# Altium schematic symbol library Integrated Chips.SchLib: 79 symbols
Pins are listed as number, name and electrical type; pins without a type are passive.

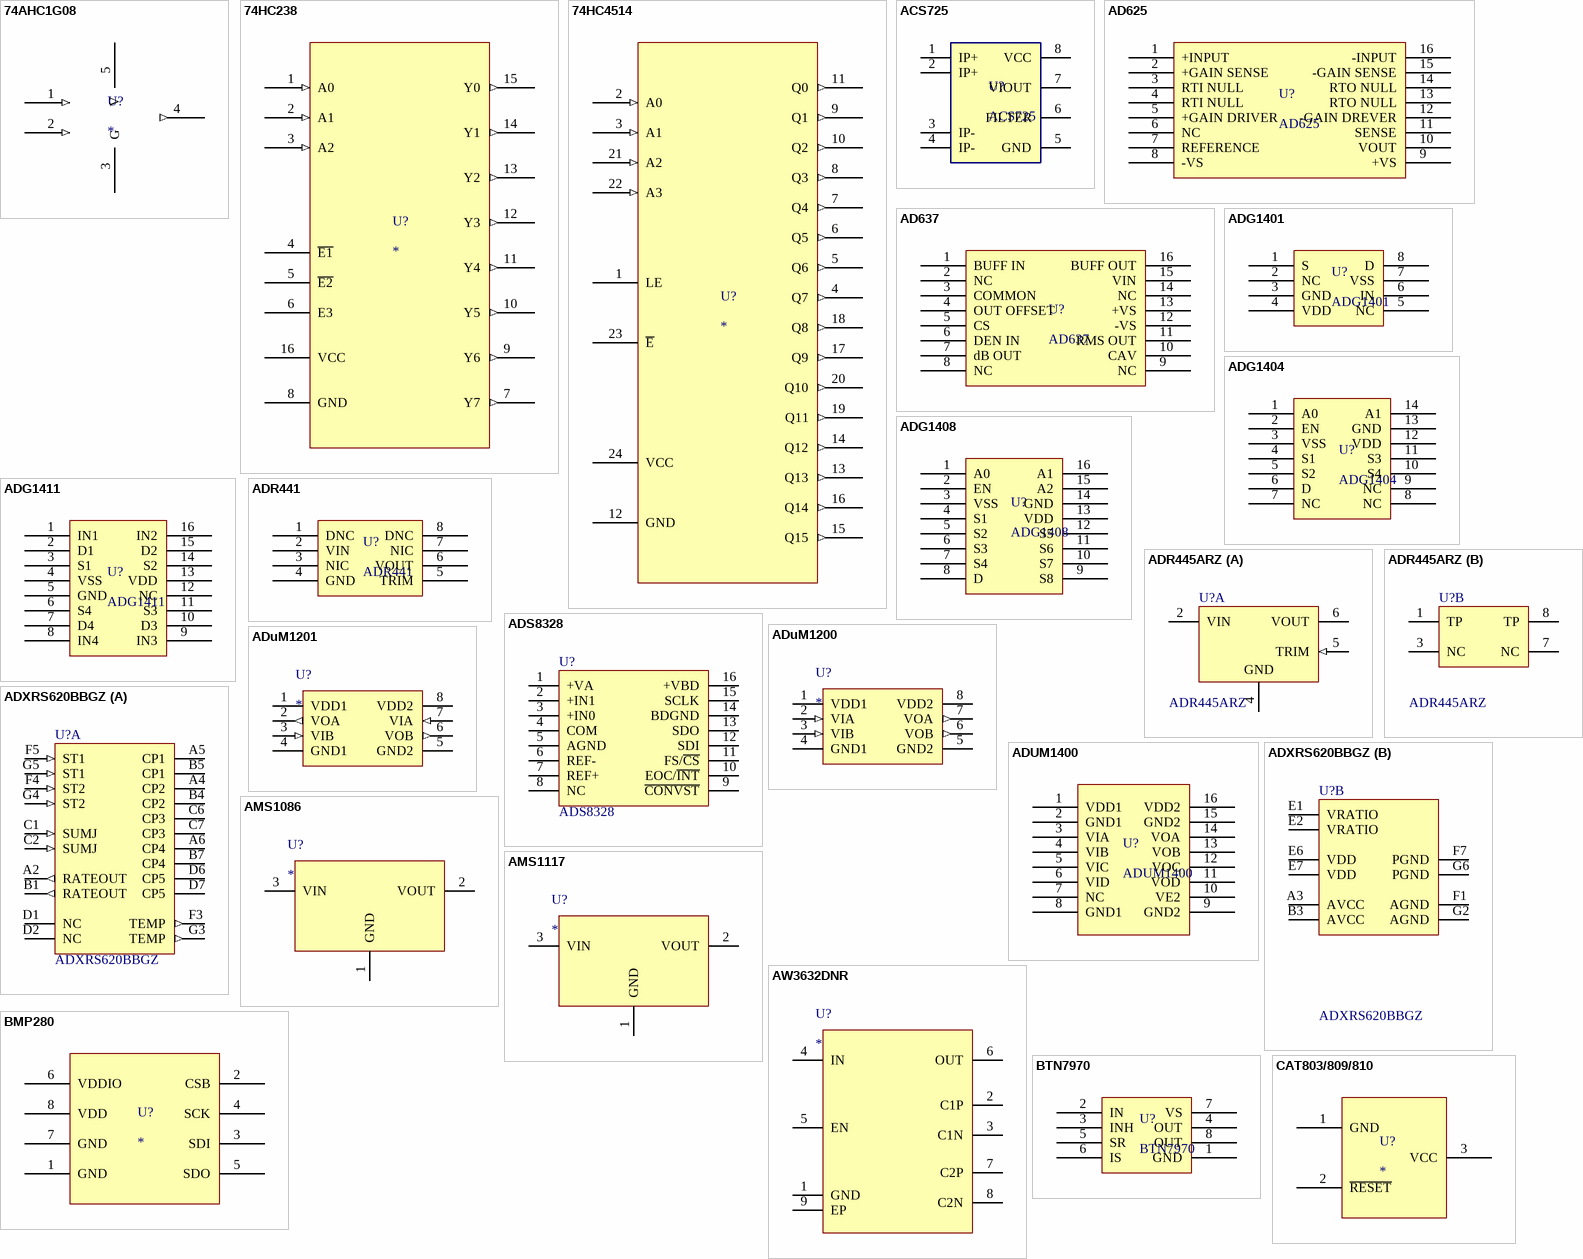
[diagram p0: symbols 74AHC1G08 to CAT803/809/810]

## 74AHC1G08
designator U?
2-input AND gate
footprint SC70_5(SOT353) (SOT353, 5-Leads, Body 2.00x2.10mm, Pitch 0.65mm, IPC Medium Density)
pins: 1 (in), 2 (in), 3 G (power), 4 (out), 5 V (power)

## 74HC238
designator U?
3-to-8 line decoder/demultiplexer
footprint SOIC16_150 (SOP, 16-Leads, Body 9.90x3.90mm, Pitch 1.27mm, IPC Medium Density)
pins: 1 A0 (in), 2 A1 (in), 3 A2 (in), 4 ~{E1}, 5 ~{E2}, 6 E3, 7 Y7 (out), 8 GND (power), 9 Y6 (out), 10 Y5 (out), 11 Y4 (out), 12 Y3 (out), 13 Y2 (out), 14 Y1 (out), 15 Y0 (out), 16 VCC (power)

## 74HC4514
designator U?
4-to-16 line decoder/demultiplexer with input latches
footprint SOIC24_300 (SOIC, 24-Leads, Body 15.40x7.50mm, Pitch 1.27mm, IPC Medium Density)
pins: 1 LE, 2 A0 (in), 3 A1 (in), 4 Q7 (out), 5 Q6 (out), 6 Q5 (out), 7 Q4 (out), 8 Q3 (out), 9 Q1 (out), 10 Q2 (out), 11 Q0 (out), 12 GND (power), 13 Q13 (out), 14 Q12 (out), 15 Q15 (out), 16 Q14 (out), 17 Q9 (out), 18 Q8 (out), 19 Q11 (out), 20 Q10 (out), 21 A2 (in), 22 A3 (in), 23 ~{E}, 24 VCC (power)

## ACS725
designator U?
Automotive-Grade, Galvanically Isolated Current Sensor IC  ACS725 With Common-Mode Field Rejection in a Small Footprint SOIC8 Package
footprint SOIC8_150
pins: 1 IP+, 2 IP+, 3 IP-, 4 IP-, 5 GND, 6 FILTER, 7 VIOUT, 8 VCC

## AD625
designator U?
Programmable Gain Instrumentation Amplifier
footprint DIP16
pins: 1 +INPUT, 2 +GAIN SENSE, 3 RTI NULL, 4 RTI NULL, 5 +GAIN DRIVER, 6 NC, 7 REFERENCE, 8 -VS, 9 +VS, 10 VOUT, 11 SENSE, 12 -GAIN DREVER, 13 RTO NULL, 14 RTO NULL, 15 -GAIN SENSE, 16 -INPUT

## AD637
designator U?
High Precision, Wideband RMS-to-DC Converter
footprint SOIC16_300
pins: 1 BUFF IN, 2 NC, 3 COMMON, 4 OUT OFFSET, 5 CS, 6 DEN IN, 7 dB OUT, 8 NC, 9 NC, 10 CAV, 11 RMS OUT, 12 -VS, 13 +VS, 14 NC, 15 VIN, 16 BUFF OUT

## ADG1401
designator U?
1 Ω On Resistance, ±15 V/+12 V/±5 V iCMOS SPST Switches
footprint MSOP8 (TSOP, 8-Leads, Body 3.00x3.00mm, Pitch 0.65mm, IPC Medium Density)
pins: 1 S, 2 NC, 3 GND, 4 VDD, 5 NC, 6 IN, 7 VSS, 8 D

## ADG1404
designator U?
1.5 Ω On Resistance, ±15 V/12 V/±5 V, 4:1, i CMOS Mulitiplexers
footprint TSSOP14
pins: 1 A0, 2 EN, 3 VSS, 4 S1, 5 S2, 6 D, 7 NC, 8 NC, 9 NC, 10 S4, 11 S3, 12 VDD, 13 GND, 14 A1

## ADG1408
designator U?
4Ω R on , 4-/8-Channel ±15 V/+12 V/±5 V i CMOS Mulitiplexers
footprint TSSOP16 (TSOP, 16-Leads, Body 5.00x4.40mm, Pitch 0.65mm, IPC Medium Density)
pins: 1 A0, 2 EN, 3 VSS, 4 S1, 5 S2, 6 S3, 7 S4, 8 D, 9 S8, 10 S7, 11 S6, 12 S5, 13 VDD, 14 GND, 15 A2, 16 A1

## ADG1411
designator U?
1.5_Ω_On_Resistance,_±15_V/+12_V/±5_V,_iCMOS,_Quad_SPST_Switches
footprint TSSOP16 (TSOP, 16-Leads, Body 5.00x4.40mm, Pitch 0.65mm, IPC Medium Density)
pins: 1 IN1, 2 D1, 3 S1, 4 VSS, 5 GND, 6 S4, 7 D4, 8 IN4, 9 IN3, 10 D3, 11 S3, 12 NC, 13 VDD, 14 S2, 15 D2, 16 IN2

## ADR441
designator U?
Ultralow_Noise,_LDO_XFET_Voltage_References_with_Current_Sink_and_Source
footprint SOIC8_150
pins: 1 DNC, 2 VIN, 3 NIC, 4 GND, 5 TRIM, 6 VOUT, 7 NIC, 8 DNC

## ADR445ARZ
designator U?
Ultralow Noise, LDO XFET Voltage Reference with Current Sink and Source, 5 V Output, 5.5 to 18 V Supply, Industrial, 8-pin SOIC (R-8), Tube; Manufacturer: Analog Devices; Max V Supply (V): 18; Min V Supply (V): 5.5; Ref Out TC (ppm/C): 2; Vout: 5V; DatasheetVersion: Rev. E; PackageVersion: 060506-A, 06/2006; PackageReference: R-8; PackageDescription: 8-Pin Standard Small Outline Package, Body 4.9 x 3.9 mm, Pitch 1.27 mm; Supplier 1: Digi-Key; Supplier Part Number 1: ADR445ARZ-ND; Supplier 2: Farnell; Supplier Part Number 2: 1274149; Supplier 3: Mouser; Supplier Part Number 3: 584-ADR445ARZ; Packing: Tube; Operating Temp Range: -40 to 125 degC; Mounting Technology: Surface Mount; Code_JEDEC: MS-012-AA; PartNumber: ADR445ARZ; ComponentLink1Description: Manufacturer URL; ComponentLink1URL: http://www.analog.com/en/index.html; ComponentLink2Description: Datasheet; ComponentLink2URL: http://www.analog.com/static/imported-files/data_sheets/ADR440_441_443_444_445.pdf; ComponentLink3Description: Package Specification; ComponentLink3URL: http://www.analog.com/static/imported-files/packages/PKG_PDF/SOIC_Narrow%20(R)/R_8.pdf; ComponentLink4Description: URL Link1; ComponentLink4URL: Product URL:http://www.analog.com/en/special-linear-functions/voltage-references/adr445/products/product.html
footprint SOIC8_150
part A pins: 2 VIN (power), 4 GND (power), 5 TRIM (in), 6 VOUT (power)
part B pins: 1 TP, 3 NC, 7 NC, 8 TP

## ADS8328
designator U?
16 Bit AD Converter, dual unipolar input
footprint TSSOP16 (TSOP, 16-Leads, Body 5.00x4.40mm, Pitch 0.65mm, IPC Medium Density)
pins: 1 +VA (power), 2 +IN1 (power), 3 +IN0 (power), 4 COM (power), 5 AGND (power), 6 REF- (power), 7 REF+ (power), 8 NC (power), 9 ~{CONVST} (power), 10 EOC/~{INT} (power), 11 FS/~{CS} (power), 12 SDI (power), 13 SDO (power), 14 BDGND (power), 15 SCLK (power), 16 +VBD (power)

## ADuM1200
designator U?
footprint SOIC8_150
pins: 1 VDD1 (power), 2 VIA (in), 3 VIB (in), 4 GND1 (power), 5 GND2 (power), 6 VOB (out), 7 VOA (out), 8 VDD2 (power)

## ADuM1201
designator U?
footprint SOIC8_150
pins: 1 VDD1 (power), 2 VOA (out), 3 VIB (in), 4 GND1 (power), 5 GND2 (power), 6 VOB (out), 7 VIA (in), 8 VDD2 (power)

## ADUM1400
designator U?
Quad-Channel Digital Isolators
footprint SOIC16_300
pins: 1 VDD1, 2 GND1, 3 VIA, 4 VIB, 5 VIC, 6 VID, 7 NC, 8 GND1, 9 GND2, 10 VE2, 11 VOD, 12 VOC, 13 VOB, 14 VOA, 15 GND2, 16 VDD2

## ADXRS620BBGZ
designator U?
Yaw Rate Gyroscope; Manufacturer: Analog Devices; -3dB Bandwidth: 2.5 KHz; Nonliniarity: 0.1% of FS; Output Type: Analog; Packing: Tray; Sensitivity: 6 mv/degrees/s; Supply Current: 3.5 mA; Temp Sensor: Yes; Voltage Reference: No; Voltage Supply (V): 4.75 to 5.25; DatasheetVersion: Rev. B; PackageVersion: 042307-A, 04/2007; PackageReference: BG-32-3; PackageDescription: 32-Ball Ceramic Ball Grid Array, 6.85 x 6.85 mm Body, 0.8 mm Pitch; Supplier 1: Digi-Key; Supplier Part Number 1: ADXRS620BBGZ-ND; Supplier 2: Farnell; Supplier Part Number 2: 2305763; Supplier 3: Newark; Supplier Part Number 3: 91R2569; Supplier 4: Mouser; Supplier Part Number 4: 584-ADXRS620BBGZ; Mounting Technology: Surface Mount; PartNumber: ADXRS620BBGZ; ComponentLink1Description: Manufacturer URL; ComponentLink1URL: http://www.analog.com/en/index.html; ComponentLink2Description: Datasheet; ComponentLink2URL: http://www.analog.com/static/imported-files/data_sheets/ADXRS620.pdf; ComponentLink3Description: Package Specification; ComponentLink3URL: http:/www.analog.com/static/imported-files/packages/6438543BG_32_3.pdf; ComponentLink4Description: Product URL; ComponentLink4URL: http://www.analog.com/en/mems-sensors/mems-inertial-sensors/adxrs620/products/product.html
footprint BGA32_80P_0707
part A pins: A2 RATEOUT (out) "Rate Signal Output.", A4 CP2 "Charge Pump Capacitor (22 nF).", A5 CP1 "Charge Pump Capacitor (22 nF).", A6 CP4 "Charge Pump Capacitor (22 nF).", B1 RATEOUT (out) "Rate Signal Output.", B4 CP2 "Charge Pump Capacitor (22 nF).", B5 CP1 "Charge Pump Capacitor (22 nF).", B7 CP4 "Charge Pump Capacitor (22 nF).", C1 SUMJ (in) "Output Amp Summing Junction.", C2 SUMJ (in) "Output Amp Summing Junction.", C6 CP3 "Charge Pump Capacitor (22 nF).", C7 CP3 "Charge Pump Capacitor (22 nF).", D1 NC "No Connect.", D2 NC "No Connect.", D6 CP5 (power) "HV Filter Capacitor (0.1 uF).", D7 CP5 (power) "HV Filter Capacitor (0.1 uF).", F3 TEMP (out) "Temperature Voltage Output.", F4 ST2 (in) "Self-Test for Sensor 2.", F5 ST1 (in) "Self-Test for Sensor 1.", G3 TEMP (out) "Temperature Voltage Output.", G4 ST2 (in) "Self-Test for Sensor 2.", G5 ST1 (in) "Self-Test for Sensor 1."
part B pins: A3 AVCC (power) "Positive Analog Supply.", B3 AVCC (power) "Positive Analog Supply.", E1 VRATIO (power) "Reference Supply for Ratiometric Output.", E2 VRATIO (power) "Reference Supply for Ratiometric Output.", E6 VDD (power) "Positive Charge Pump Supply.", E7 VDD (power) "Positive Charge Pump Supply.", F1 AGND (power) "Analog Supply Return.", F7 PGND (power) "Charge Pump Supply Return.", G2 AGND (power) "Analog Supply Return.", G6 PGND (power) "Charge Pump Supply Return."

## AMS1086
designator U?
footprint TO-263AA(D2PAK)
pins: 1 GND (power), 2 VOUT (power), 3 VIN (power)

## AMS1117
designator U?
footprint SOT223 (SOT223, 4-Leads, Body 6.50x7.00mm (avg), Pitch 2.30mm, IPC Medium Density)
pins: 1 GND (power), 2 VOUT (power), 3 VIN (power)

## AW3632DNR
designator U?
footprint DFN8_2X2 (QFN, 8-Leads, Body 2.00x2.00mm, Pitch 0.50mm, Thermal Pad 0.60x1.20mm, IPC Medium Density)
pins: 1 GND, 2 C1P, 3 C1N, 4 IN, 5 EN, 6 OUT, 7 C2P, 8 C2N, 9 EP

## BMP280
designator U?
Digital pressure sensor
footprint BMP280
pins: 1 GND, 2 CSB, 3 SDI, 4 SCK, 5 SDO, 6 VDDIO, 7 GND, 8 VDD

## BTN7970
designator U?
High Current PN Half Bridge / NovalithIC™
footprint TO-263-7
pins: 1 GND (power), 2 IN (power), 3 INH (power), 4 OUT (power), 5 SR (power), 6 IS (power), 7 VS (power), 8 OUT (power)

## CAT803/809/810
designator U?
3-Pin Microprocessor power supply supervisors
footprint SOT23_3_1 (SOT23, 3-Leads, Body 2.92x2.37mm, Pitch 0.95mm, IPC Medium Density)
pins: 1 GND (power), 2 ~{RESET}, 3 VCC (power)

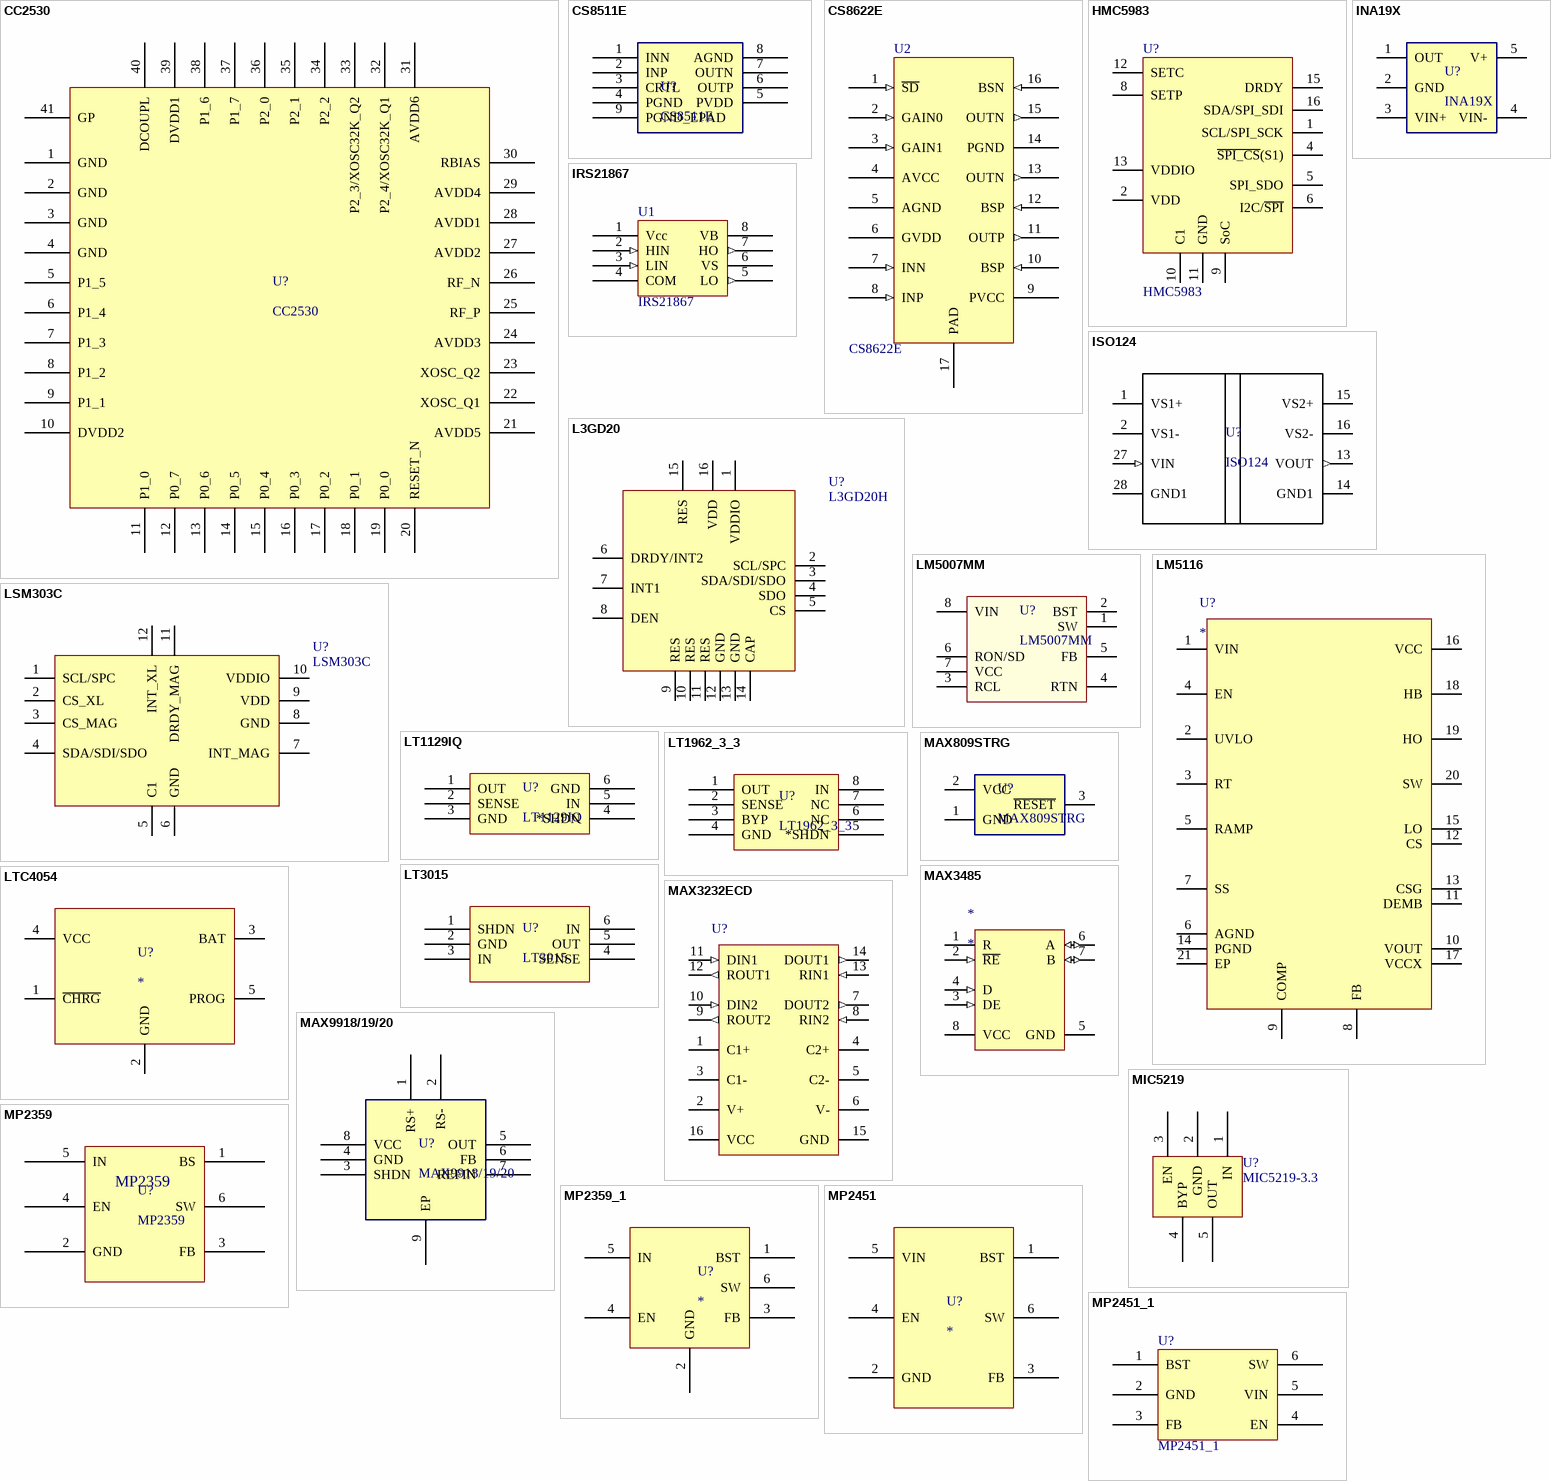
[diagram p1: symbols CC2530 to MP2451_1]

## CC2530
designator U?
2.4G Zigbee application Soc
footprint QFN40_50P_EP (PQFN, 40-Leads, Body 6.00x6.00mm, Pitch 0.50mm, Thermal Pad 4.50x4.50mm, IPC Medium Density)
pins: 1 GND, 2 GND, 3 GND, 4 GND, 5 P1_5, 6 P1_4, 7 P1_3, 8 P1_2, 9 P1_1, 10 DVDD2, 11 P1_0, 12 P0_7, 13 P0_6, 14 P0_5, 15 P0_4, 16 P0_3, 17 P0_2, 18 P0_1, 19 P0_0, 20 RESET_N, 21 AVDD5, 22 XOSC_Q1, 23 XOSC_Q2, 24 AVDD3, 25 RF_P, 26 RF_N, 27 AVDD2, 28 AVDD1, 29 AVDD4, 30 RBIAS, 31 AVDD6, 32 P2_4/XOSC32K_Q1, 33 P2_3/XOSC32K_Q2, 34 P2_2, 35 P2_1, 36 P2_0, 37 P1_7, 38 P1_6, 39 DVDD1, 40 DCOUPL, 41 GP

## CS8511E
designator U?
footprint SOIC8_150_EP (SOIC, 8-Leads, Body 4.90x3.90mm, Pitch 1.27mm, Thermal Pad 3.17x2.43mm, IPC Medium Density)
pins: 1 INN, 2 INP, 3 CRTL, 4 PGND, 5 PVDD, 6 OUTP, 7 OUTN, 8 AGND, 9 PGND_EPAD

## CS8622E
designator U2
footprint SOIC16_150_EP (SOP, 16-Leads, Body 9.90x3.90mm, Pitch 1.27mm, Thermal Pad 4.50x3.00mm, IPC Medium Density)
pins: 1 ~{SD} (in), 2 GAIN0 (in), 3 GAIN1 (in), 4 AVCC (power), 5 AGND (power), 6 GVDD (power), 7 INN (in), 8 INP (in), 9 PVCC (power), 10 BSP (in), 11 OUTP (out), 12 BSP (in), 13 OUTN (out), 14 PGND (power), 15 OUTN (out), 16 BSN (in), 17 PAD (power)

## HMC5983
designator U?
3-Axis digital compass IC
footprint QFN16_50P
pins: 1 SCL/SPI_SCK, 2 VDD, 4 ~{SPI_CS}(S1), 5 SPI_SDO, 6 I2C/~{SPI}, 8 SETP, 9 SoC, 10 C1, 11 GND, 12 SETC, 13 VDDIO, 15 DRDY, 16 SDA/SPI_SDI

## INA19X
designator U?
Pinout #1gain=20/50/100CURRENT SHUNT MONITOR  −16V to +80V Common-Mode Range
footprint SOT23_5 (SOT23, 5-Leads, Body 2.90x2.70mm, Pitch 0.95mm, IPC Medium Density)
pins: 1 OUT, 2 GND, 3 VIN+, 4 VIN-, 5 V+

## IRS21867
designator U1
footprint SOIC8_150
pins: 1 Vcc (power), 2 HIN (in), 3 LIN (in), 4 COM (power), 5 LO (out), 6 VS (power), 7 HO (out), 8 VB (power)

## ISO124
designator U?
ISO124 Precision Lowest-Cost Isolation Amplifier
footprint SOIC16_DVA (Footprint not found)
pins: 1 VS1+ (power), 2 VS1- (power), 13 VOUT (out), 14 GND1 (power), 15 VS2+ (power), 16 VS2- (power), 27 VIN (in), 28 GND1 (power)

## L3GD20
designator U?, comment L3GD20H
3-Axis digital gyroscope
footprint LGA16_3X3
pins: 1 VDDIO, 2 SCL/SPC, 3 SDA/SDI/SDO, 4 SDO, 5 CS, 6 DRDY/INT2, 7 INT1, 8 DEN, 9 RES, 10 RES, 11 RES, 12 GND, 13 GND, 14 CAP, 15 RES, 16 VDD

## LM5007MM
designator U?
LM5007 High Voltage 80-V Step Down Switching Regulator
footprint MSOP8 (TSOP, 8-Leads, Body 3.00x3.00mm, Pitch 0.65mm, IPC Medium Density)
pins: 1 SW (power), 2 BST, 3 RCL, 4 RTN (power), 5 FB, 6 RON/SD, 7 VCC (power), 8 VIN (power)

## LM5116
designator U?
footprint TSSOP20_EP (TSOP, 20-Leads, Body 6.50x4.40mm, Pitch 0.65mm, Thermal Pad 4.35x3.15mm, IPC Medium Density)
pins: 1 VIN, 2 UVLO, 3 RT, 4 EN, 5 RAMP, 6 AGND, 7 SS, 8 FB, 9 COMP, 10 VOUT, 11 DEMB, 12 CS, 13 CSG, 14 PGND, 15 LO, 16 VCC, 17 VCCX, 18 HB, 19 HO, 20 SW, 21 EP

## LSM303C
designator U?
3D accelerometer and 3D magnetometer
footprint LGA12_2X2
pins: 1 SCL/SPC, 2 CS_XL, 3 CS_MAG, 4 SDA/SDI/SDO, 5 C1, 6 GND, 7 INT_MAG, 8 GND, 9 VDD, 10 VDDIO, 11 DRDY_MAG, 12 INT_XL

## LT1129IQ
designator U?
LT3015: 1.5A, Low Noise, Negative Linear Regulator with Precision Current Limit
footprint TO-263-5
pins: 1 OUT, 2 SENSE, 3 GND, 4 *SHDN, 5 IN, 6 GND

## LT1962_3_3
designator U?
LT1962: 300mA, Low Noise, Micropower LDO Regulators
footprint MSOP8 (TSOP, 8-Leads, Body 3.00x3.00mm, Pitch 0.65mm, IPC Medium Density)
pins: 1 OUT, 2 SENSE, 3 BYP, 4 GND, 5 *SHDN, 6 NC, 7 NC, 8 IN

## LT3015
designator U?
LT3015: 1.5A, Low Noise, Negative Linear Regulator with Precision Current Limit
footprint TO-263-5
pins: 1 SHDN, 2 GND, 3 IN, 4 SENSE, 5 OUT, 6 IN

## LTC4054
designator U?
footprint SOT23_5L (SOT23, 5-Leads, Body 2.92x2.79mm, Pitch 0.95mm, IPC High Density)
pins: 1 ~{CHRG}, 2 GND (power), 3 BAT (power), 4 VCC (power), 5 PROG (power)

## MAX809STRG
designator U?
Very Low Supply Current  3-Pin Microprocessor  Reset Monitors
footprint SOT23_3_1 (SOT23, 3-Leads, Body 2.92x2.37mm, Pitch 0.95mm, IPC Medium Density)
pins: 1 GND, 2 VCC, 3 ~{RESET}

## MAX3232ECD
designator U?
3-V to 5.5-V Multichannel RS-232 Line Driver / Receiver with ?5-kV IEC ESD Protection, 0 to 70 degC, 16-Pin SOIC (D), Green (RoHS & no Sb/Br); Drivers Per Package: 2; Supply Voltage(s)(V): 3.3 or 5.0; ESD HBM(kV): +/-15; ICC(Max)(mA): 1; Single Supply: TRUE; DatasheetVersion: SLLS664A; PackageVersion: revM, Jun-2011; PackageReference: D16; PackageDescription: 16-Pin Plastic Small Outline Integrated Circuit, 9.9 x 3.9 mm, Pitch 1.27 mm Pitch; SubFamily: RS-232; Receivers Per Package: 2; RS-232: TRUE; IEC-61000-4-2 SUPPORT: TRUE; ComponentLink1Description: Manufacturer URL; ComponentLink1URL: www.ti.com; ComponentLink2Description: Datasheet; ComponentLink2URL: http://www.ti.com/general/docs/lit/getliterature.tsp?genericPartNumber=MAX3232E&fileType=pdf; ComponentLink3Description: Package Specification; ComponentLink3URL: http://www.ti.com/litv/pdf/mpds178g
footprint SOIC16_150 (SOP, 16-Leads, Body 9.90x3.90mm, Pitch 1.27mm, IPC Medium Density)
pins: 1 C1+, 2 V+ (power), 3 C1-, 4 C2+, 5 C2-, 6 V- (power), 7 DOUT2 (out), 8 RIN2 (in), 9 ROUT2 (out), 10 DIN2 (in), 11 DIN1 (in), 12 ROUT1 (out), 13 RIN1 (in), 14 DOUT1 (out), 15 GND (power), 16 VCC (power)

## MAX3485
designator *
footprint SOIC8_150
pins: 1 R (hiz), 2 ~{RE} (in), 3 DE (in), 4 D (in), 5 GND (power), 6 A (io), 7 B (io), 8 VCC (power)

## MAX9918/19/20
designator U?
footprint SOIC8_150_EP (SOIC, 8-Leads, Body 4.90x3.90mm, Pitch 1.27mm, Thermal Pad 3.17x2.43mm, IPC Medium Density)
pins: 1 RS+, 2 RS-, 3 SHDN, 4 GND, 5 OUT, 6 FB, 7 REFIN, 8 VCC, 9 EP

## MIC5219
designator U?, comment MIC5219-3.3
footprint SOT23_5 (SOT23, 5-Leads, Body 2.90x2.70mm, Pitch 0.95mm, IPC Medium Density)
pins: 1 IN, 2 GND, 3 EN, 4 BYP, 5 OUT

## MP2359
designator U?
MP2359 – 1.2A, 24V, 1.4MHz STEP-DOWN CONVERTER IN A TSOT23-6
footprint SOT23_6 (SOT23, 6-Leads, Body 2.90x2.80mm, Pitch 0.95mm, IPC Medium Density)
pins: 1 BS, 2 GND, 3 FB, 4 EN, 5 IN, 6 SW

## MP2359_1
designator U?
footprint SOT23_6 (SOT23, 6-Leads, Body 2.90x2.80mm, Pitch 0.95mm, IPC Medium Density)
pins: 1 BST, 2 GND (power), 3 FB, 4 EN, 5 IN (power), 6 SW

## MP2451
designator U?
footprint SOT23_6 (SOT23, 6-Leads, Body 2.90x2.80mm, Pitch 0.95mm, IPC Medium Density)
pins: 1 BST, 2 GND, 3 FB, 4 EN, 5 VIN, 6 SW

## MP2451_1
designator U?
footprint SOT23_6 (SOT23, 6-Leads, Body 2.90x2.80mm, Pitch 0.95mm, IPC Medium Density)
pins: 1 BST, 2 GND, 3 FB, 4 EN, 5 VIN, 6 SW

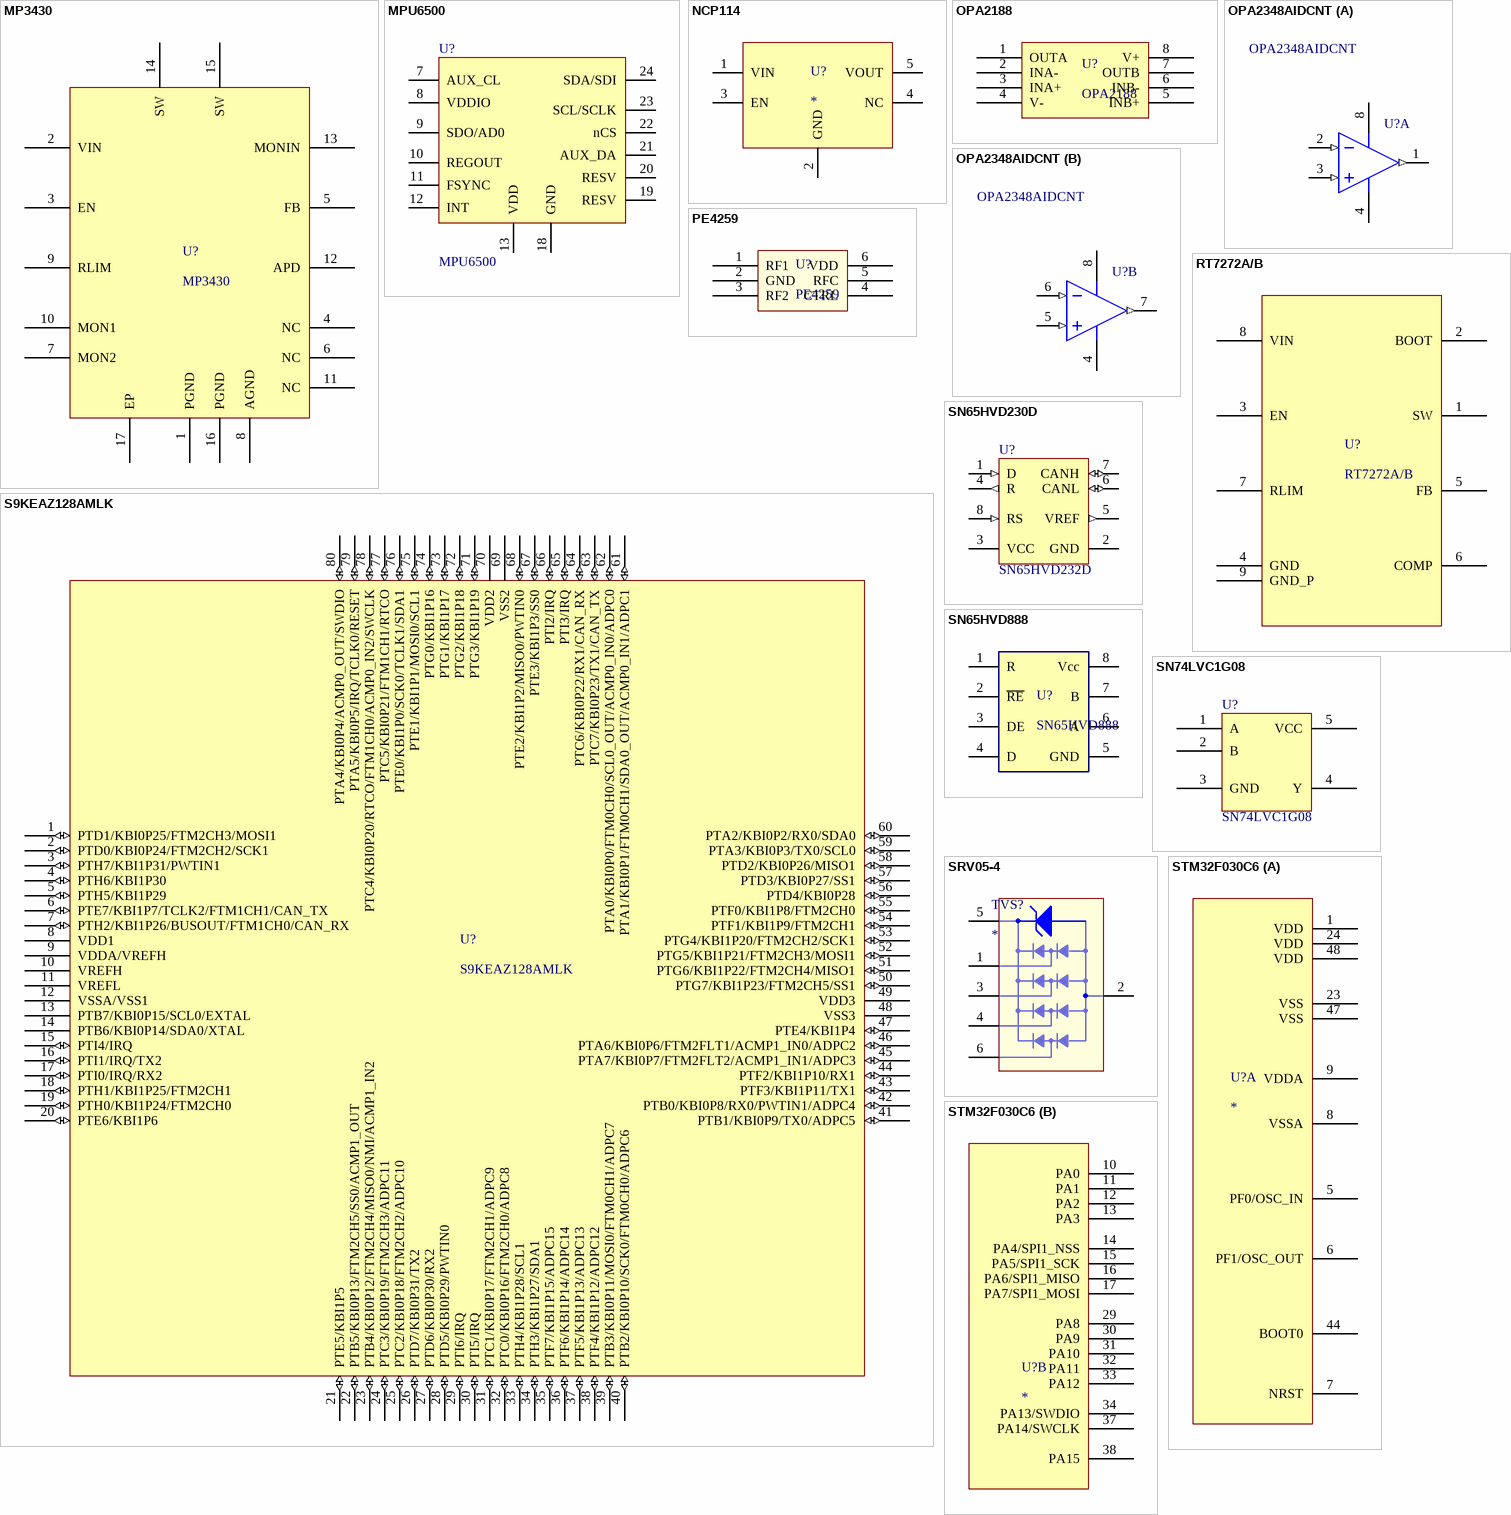
[diagram p2: symbols MP3430 to STM32F030C6]

## MP3430
designator U?
pins: 1 PGND, 2 VIN, 3 EN, 4 NC, 5 FB, 6 NC, 7 MON2, 8 AGND, 9 RLIM, 10 MON1, 11 NC, 12 APD, 13 MONIN, 14 SW, 15 SW, 16 PGND, 17 EP

## MPU6500
designator U?
footprint QFN24_40P_EP
pins: 7 AUX_CL, 8 VDDIO, 9 SDO/AD0, 10 REGOUT, 11 FSYNC, 12 INT, 13 VDD, 18 GND, 19 RESV, 20 RESV, 21 AUX_DA, 22 nCS, 23 SCL/SCLK, 24 SDA/SDI

## NCP114
designator U?
footprint SOT23_5 (SOT23, 5-Leads, Body 2.90x2.70mm, Pitch 0.95mm, IPC Medium Density)
pins: 1 VIN (power), 2 GND (power), 3 EN, 4 NC, 5 VOUT (power)

## OPA2188
designator U?
OPA2188 0.03-μV/°C Drift, Low-Noise, Rail-to-Rail Output, 36-V, Zero-Drift
footprint SOP_8 (Footprint not found)
footprint SOIC8_150
pins: 1 OUTA, 2 INA-, 3 INA+, 4 V-, 5 INB+, 6 INB-, 7 OUTB, 8 V+

## OPA2348AIDCNT
designator U?
1 MHz, 45 uA, RRIO, Dual Operational Amplifier, 2.1 to 5.5 V, -40 to 125 degC, 8-pin SOP (DCN8), Green (RoHS & no Sb/Br); Manufacturer: Texas Instruments; CMRR(Min)(dB): 70; GBW(Typ)(MHz): 1; IIB(Max)(pA): 10; Iq per channel(Max)(mA): 0.065; Number of Channels: 2; Offset Drift(Typ)(uV/C): 4; Packing: SMALL T&R; Rating: Catalog; Slew Rate(Typ)(V/us): 0.5; Sub Family: Low Input Bias Current Amp (<=10pA), Low Power Amp (<=500uA), Low Supply Voltage Amplifier (<=2.7V), Precision Amplifier; Total Supply Voltage(Max)(+5V is 5, +/-5V is 10): 5.5; Total Supply Voltage(Min)(+5V is 5, +/-5V is 10): 2.1; Vio (25C)(Max)(mV): 5; DatasheetVersion: SBOS213G; PackageVersion: 4202106/D, 11/2009; PackageReference: DCN8; PackageDescription: 8-Pin Plastic Small Outline, Body 1.6 x 2.9 mm, Pitch 0.65 mm; Supplier 1: Digi-Key; Supplier Part Number 1: 296-13008-2-ND; Supplier 2: Digi-Key; Supplier Part Number 2: 296-13008-1-ND; Supplier 3: Digi-Key; Supplier Part Number 3: 296-13008-6-ND; Supplier 4: Newark; Supplier Part Number 4: 75C4724; Supplier 5: Mouser; Supplier Part Number 5: 595-OPA2348AIDCNT; Eco-Plan: Green (RoHS & no Sb/Br); Mounting Technology: Surface Mount; Code_JEDEC: MO-178; PartNumber: OPA2348AIDCNT; ComponentLink1Description: Manufacturer URL; ComponentLink1URL: http://www.ti.com/; ComponentLink2Description: Datasheet; ComponentLink2URL: http://www.ti.com/lit/ds/symlink/opa2348.pdf; ComponentLink3Description: Package Specification; ComponentLink3URL: http://www.ti.com/lit/ml/mpds099c/mpds099c.pdf
footprint SOT23_8 (TSOP, 8-Leads, Body 2.90x1.60mm, Pitch 0.65mm, IPC Medium Density)
pins on every part: 4 V- (power), 8 V+ (power)
part A pins: 1 OUT A (out), 2 IN A- (in), 3 IN A+ (in)
part B pins: 5 IN B+ (in), 6 IN B- (in), 7 OUT B (out)

## PE4259
designator U?
PE4259 Peregrine RF Switch
footprint SC70_6(SOT363)
pins: 1 RF1, 2 GND, 3 RF2, 4 CTRL, 5 RFC, 6 VDD

## RT7272A/B
designator U?
footprint SOIC8_150_EP (SOIC, 8-Leads, Body 4.90x3.90mm, Pitch 1.27mm, Thermal Pad 3.17x2.43mm, IPC Medium Density)
pins: 1 SW, 2 BOOT, 3 EN, 4 GND, 5 FB, 6 COMP, 7 RLIM, 8 VIN, 9 GND_P

## S9KEAZ128AMLK
designator U?
32-bit MCU core from ARM’s Cortex-M class, 1.77 CoreMark®/MHz from / single-cycle access memories, 48 MHz CPU frequency
footprint LQFP80_65P (LQFP, 80-Leads, Body 14.00x14.00mm, Pitch 0.65mm, IPC Medium Density)
pins: 1 PTD1/KBI0P25/FTM2CH3/MOSI1 (io), 2 PTD0/KBI0P24/FTM2CH2/SCK1 (io), 3 PTH7/KBI1P31/PWTIN1 (io), 4 PTH6/KBI1P30 (io), 5 PTH5/KBI1P29 (io), 6 PTE7/KBI1P7/TCLK2/FTM1CH1/CAN_TX (io), 7 PTH2/KBI1P26/BUSOUT/FTM1CH0/CAN_RX (io), 8 VDD1 (power), 9 VDDA/VREFH (power), 10 VREFH (power), 11 VREFL (power), 12 VSSA/VSS1 (power), 13 PTB7/KBI0P15/SCL0/EXTAL, 14 PTB6/KBI0P14/SDA0/XTAL, 15 PTI4/IRQ (io), 16 PTI1/IRQ/TX2 (io), 17 PTI0/IRQ/RX2 (io), 18 PTH1/KBI1P25/FTM2CH1 (io), 19 PTH0/KBI1P24/FTM2CH0 (io), 20 PTE6/KBI1P6 (io), 21 PTE5/KBI1P5 (io), 22 PTB5/KBI0P13/FTM2CH5/SS0/ACMP1_OUT (io), 23 PTB4/KBI0P12/FTM2CH4/MISO0/NMI/ACMP1_IN2 (io), 24 PTC3/KBI0P19/FTM2CH3/ADPC11 (io), 25 PTC2/KBI0P18/FTM2CH2/ADPC10 (io), 26 PTD7/KBI0P31/TX2 (io), 27 PTD6/KBI0P30/RX2 (io), 28 PTD5/KBI0P29/PWTIN0 (io), 29 PTI6/IRQ (io), 30 PTI5/IRQ (io), 31 PTC1/KBI0P17/FTM2CH1/ADPC9 (io), 32 PTC0/KBI0P16/FTM2CH0/ADPC8 (io), 33 PTH4/KBI1P28/SCL1 (io), 34 PTH3/KBI1P27/SDA1 (io), 35 PTF7/KBI1P15/ADPC15 (io), 36 PTF6/KBI1P14/ADPC14 (io), 37 PTF5/KBI1P13/ADPC13 (io), 38 PTF4/KBI1P12/ADPC12 (io), 39 PTB3/KBI0P11/MOSI0/FTM0CH1/ADPC7 (io), 40 PTB2/KBI0P10/SCK0/FTM0CH0/ADPC6 (io), 41 PTB1/KBI0P9/TX0/ADPC5 (io), 42 PTB0/KBI0P8/RX0/PWTIN1/ADPC4 (io), 43 PTF3/KBI1P11/TX1 (io), 44 PTF2/KBI1P10/RX1 (io), 45 PTA7/KBI0P7/FTM2FLT2/ACMP1_IN1/ADPC3 (io), 46 PTA6/KBI0P6/FTM2FLT1/ACMP1_IN0/ADPC2 (io), 47 PTE4/KBI1P4 (io), 48 VSS3 (power), 49 VDD3 (power), 50 PTG7/KBI1P23/FTM2CH5/SS1 (io), 51 PTG6/KBI1P22/FTM2CH4/MISO1 (io), 52 PTG5/KBI1P21/FTM2CH3/MOSI1 (io), 53 PTG4/KBI1P20/FTM2CH2/SCK1 (io), 54 PTF1/KBI1P9/FTM2CH1 (io), 55 PTF0/KBI1P8/FTM2CH0 (io), 56 PTD4/KBI0P28 (io), 57 PTD3/KBI0P27/SS1 (io), 58 PTD2/KBI0P26/MISO1 (io), 59 PTA3/KBI0P3/TX0/SCL0 (io), 60 PTA2/KBI0P2/RX0/SDA0 (io), 61 PTA1/KBI0P1/FTM0CH1/SDA0_OUT/ACMP0_IN1/ADPC1 (io), 62 PTA0/KBI0P0/FTM0CH0/SCL0_OUT/ACMP0_IN0/ADPC0 (io), 63 PTC7/KBI0P23/TX1/CAN_TX (io), 64 PTC6/KBI0P22/RX1/CAN_RX (io), 65 PTI3/IRQ (io), 66 PTI2/IRQ (io), 67 PTE3/KBI1P3/SS0 (io), 68 PTE2/KBI1P2/MISO0/PWTIN0 (io), 69 VSS2 (power), 70 VDD2 (power), 71 PTG3/KBI1P19 (io), 72 PTG2/KBI1P18 (io), 73 PTG1/KBI1P17 (io), 74 PTG0/KBI1P16 (io), 75 PTE1/KBI1P1/MOSI0/SCL1 (io), 76 PTE0/KBI1P0/SCK0/TCLK1/SDA1 (io), 77 PTC5/KBI0P21/FTM1CH1/RTCO (io), 78 PTC4/KBI0P20/RTCO/FTM1CH0/ACMP0_IN2/SWCLK (io), 79 PTA5/KBI0P5/IRQ/TCLK0/RESET (io), 80 PTA4/KBI0P4/ACMP0_OUT/SWDIO (io)

## SN65HVD230D
designator U?, comment SN65HVD232D
3.3V CAN Transceiver with Standby Mode, 17 mA, -40 to 85 degC, 8-pin SOIC (D), Green (RoHS & no Sb/Br); Manufacturer: Texas Instruments; PartNumber: SN65HVD230D; Drivers Per Package: 1; Transient Pulse Protection(V): -25 to 25; ICC(Max)(mA): 17; Supply Voltage(s)(V): 3.3; Rating: Catalog; DatasheetVersion: SLOS346K; PackageVersion: revM, Jun-2011; PackageReference: D8; PackageDescription: 8-Pin Plastic Small Outline Integrated Circuit, 4.9 x 3.9 mm, Pitch 1.27 mm Pitch; Supplier 1: Digi-Key; Supplier Part Number 1: SN65HVD230D-ND; Supplier 2: Farnell; Supplier Part Number 2: 1103105; Supplier 3: Newark; Supplier Part Number 3: 75C7744; Supplier 4: Mouser; Supplier Part Number 4: 595-SN65HVD230D; Eco-Plan: Green (RoHS & no Sb/Br); SubFamily: CAN; Receivers Per Package: 1; Isolated: No; Low Power Mode: Standby; Footprint: PCA82C250; Mounting Technology: Surface Mount; Code_JEDEC: MS-012AA; ComponentLink1Description: Datasheet; ComponentLink1URL: http://www.ti.com/general/docs/lit/getliterature.tsp?genericPartNumber=SN65HVD230&fileType=pdf
footprint SOIC8_150
pins: 1 D (in) "Driver input", 2 GND (power) "Ground", 3 VCC (power) "Supply voltage", 4 R (out) "Receiver output", 5 VREF (out) "Reference output", 6 CANL (io) "Low bus output", 7 CANH (io) "High bus output", 8 RS (in) "Standby/slope control"

## SN65HVD888
designator U?
RS-485 转发器  具有 IEC-ESD 保护的总线极性纠正 300bps 至 250kbps
footprint SOIC8_150
pins: 1 R, 2 ~{RE}, 3 DE, 4 D, 5 GND, 6 A, 7 B, 8 Vcc

## SN74LVC1G08
designator U?
footprint SOT23_5 (SOT23, 5-Leads, Body 2.90x2.70mm, Pitch 0.95mm, IPC Medium Density)
pins: 1 A, 2 B, 3 GND, 4 Y, 5 VCC

## SRV05-4
designator TVS?
footprint SOT23_6 (SOT23, 6-Leads, Body 2.90x2.80mm, Pitch 0.95mm, IPC Medium Density)
pins: 1, 2, 3, 4, 5, 6

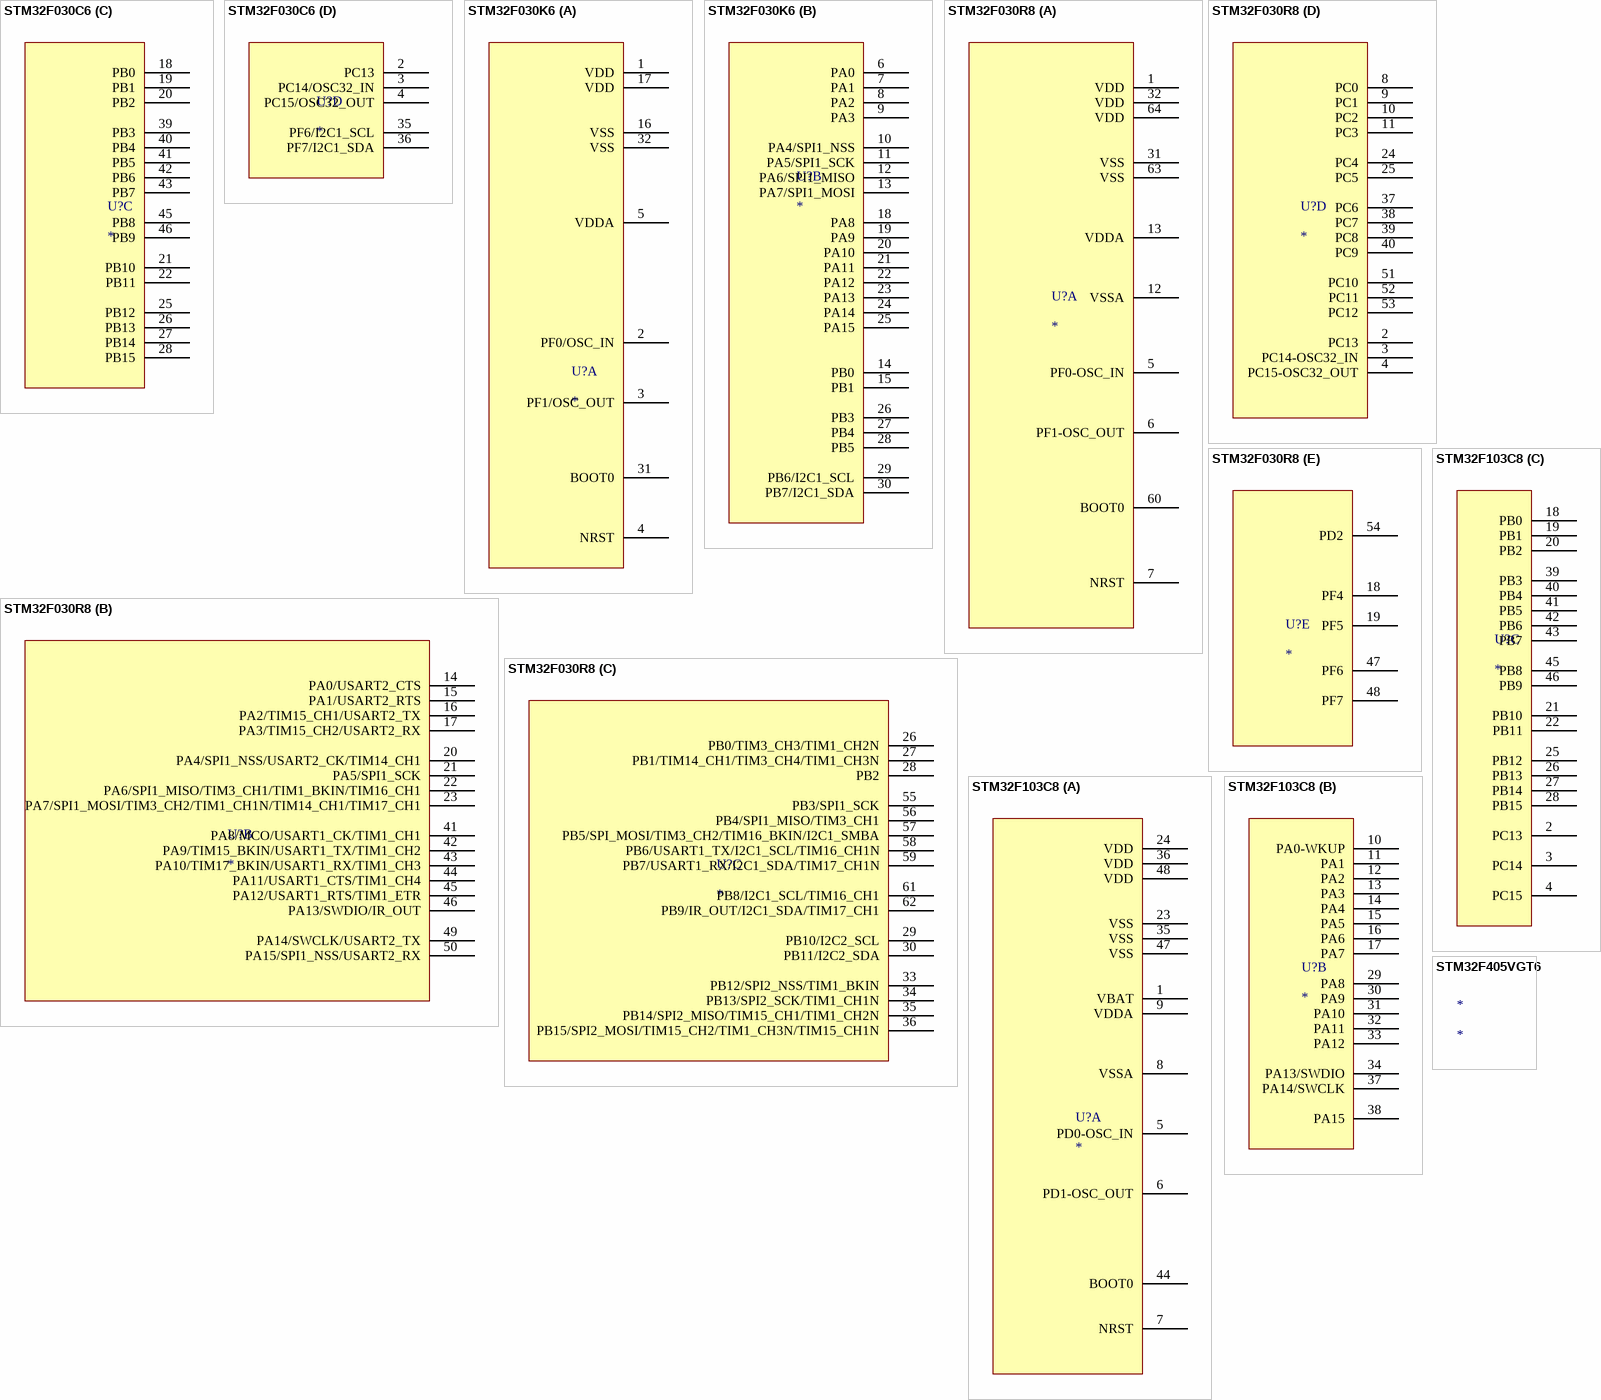
[diagram p3: symbols STM32F030C6 to STM32F405VGT6]

## STM32F030C6
designator U?
footprint LQFP48_50P (TSQFP, 48-Leads, Body 7.00x7.00mm, Pitch 0.50mm, IPC Medium Density)
part A pins: 1 VDD (power), 5 PF0/OSC_IN, 6 PF1/OSC_OUT, 7 NRST, 8 VSSA (power), 9 VDDA (power), 23 VSS (power), 24 VDD (power), 44 BOOT0, 47 VSS (power), 48 VDD (power)
part B pins: 10 PA0, 11 PA1, 12 PA2, 13 PA3, 14 PA4/SPI1_NSS, 15 PA5/SPI1_SCK, 16 PA6/SPI1_MISO, 17 PA7/SPI1_MOSI, 29 PA8, 30 PA9, 31 PA10, 32 PA11, 33 PA12, 34 PA13/SWDIO, 37 PA14/SWCLK, 38 PA15
part C pins: 18 PB0, 19 PB1, 20 PB2, 21 PB10, 22 PB11, 25 PB12, 26 PB13, 27 PB14, 28 PB15, 39 PB3, 40 PB4, 41 PB5, 42 PB6, 43 PB7, 45 PB8, 46 PB9
part D pins: 2 PC13, 3 PC14/OSC32_IN, 4 PC15/OSC32_OUT, 35 PF6/I2C1_SCL, 36 PF7/I2C1_SDA

## STM32F030K6
designator U?
footprint LQFP32_80P (TQFP, 32-Leads, Body 7.00x7.00mm, Pitch 0.80mm, IPC Medium Density)
part A pins: 1 VDD (power), 2 PF0/OSC_IN, 3 PF1/OSC_OUT, 4 NRST, 5 VDDA (power), 16 VSS (power), 17 VDD (power), 31 BOOT0, 32 VSS (power)
part B pins: 6 PA0, 7 PA1, 8 PA2, 9 PA3, 10 PA4/SPI1_NSS, 11 PA5/SPI1_SCK, 12 PA6/SPI1_MISO, 13 PA7/SPI1_MOSI, 14 PB0, 15 PB1, 18 PA8, 19 PA9, 20 PA10, 21 PA11, 22 PA12, 23 PA13, 24 PA14, 25 PA15, 26 PB3, 27 PB4, 28 PB5, 29 PB6/I2C1_SCL, 30 PB7/I2C1_SDA

## STM32F030R8
designator U?
footprint LQFP64_50P (TSQFP, 64-Leads, Body 10.00x10.00mm, Pitch 0.50mm, IPC Medium Density)
part A pins: 1 VDD (power), 5 PF0-OSC_IN, 6 PF1-OSC_OUT, 7 NRST, 12 VSSA (power), 13 VDDA (power), 31 VSS (power), 32 VDD (power), 60 BOOT0, 63 VSS (power), 64 VDD (power)
part B pins: 14 PA0/USART2_CTS, 15 PA1/USART2_RTS, 16 PA2/TIM15_CH1/USART2_TX, 17 PA3/TIM15_CH2/USART2_RX, 20 PA4/SPI1_NSS/USART2_CK/TIM14_CH1, 21 PA5/SPI1_SCK, 22 PA6/SPI1_MISO/TIM3_CH1/TIM1_BKIN/TIM16_CH1, 23 PA7/SPI1_MOSI/TIM3_CH2/TIM1_CH1N/TIM14_CH1/TIM17_CH1, 41 PA8/MCO/USART1_CK/TIM1_CH1, 42 PA9/TIM15_BKIN/USART1_TX/TIM1_CH2, 43 PA10/TIM17_BKIN/USART1_RX/TIM1_CH3, 44 PA11/USART1_CTS/TIM1_CH4, 45 PA12/USART1_RTS/TIM1_ETR, 46 PA13/SWDIO/IR_OUT, 49 PA14/SWCLK/USART2_TX, 50 PA15/SPI1_NSS/USART2_RX
part C pins: 26 PB0/TIM3_CH3/TIM1_CH2N, 27 PB1/TIM14_CH1/TIM3_CH4/TIM1_CH3N, 28 PB2, 29 PB10/I2C2_SCL, 30 PB11/I2C2_SDA, 33 PB12/SPI2_NSS/TIM1_BKIN, 34 PB13/SPI2_SCK/TIM1_CH1N, 35 PB14/SPI2_MISO/TIM15_CH1/TIM1_CH2N, 36 PB15/SPI2_MOSI/TIM15_CH2/TIM1_CH3N/TIM15_CH1N, 55 PB3/SPI1_SCK, 56 PB4/SPI1_MISO/TIM3_CH1, 57 PB5/SPI_MOSI/TIM3_CH2/TIM16_BKIN/I2C1_SMBA, 58 PB6/USART1_TX/I2C1_SCL/TIM16_CH1N, 59 PB7/USART1_RX/I2C1_SDA/TIM17_CH1N, 61 PB8/I2C1_SCL/TIM16_CH1, 62 PB9/IR_OUT/I2C1_SDA/TIM17_CH1
part D pins: 2 PC13, 3 PC14-OSC32_IN, 4 PC15-OSC32_OUT, 8 PC0, 9 PC1, 10 PC2, 11 PC3, 24 PC4, 25 PC5, 37 PC6, 38 PC7, 39 PC8, 40 PC9, 51 PC10, 52 PC11, 53 PC12
part E pins: 18 PF4, 19 PF5, 47 PF6, 48 PF7, 54 PD2

## STM32F103C8
designator U?
footprint Model Name (Footprint not found)
footprint LQFP48_50P (TSQFP, 48-Leads, Body 7.00x7.00mm, Pitch 0.50mm, IPC Medium Density)
part A pins: 1 VBAT (power), 5 PD0-OSC_IN, 6 PD1-OSC_OUT, 7 NRST, 8 VSSA (power), 9 VDDA (power), 23 VSS (power), 24 VDD (power), 35 VSS (power), 36 VDD (power), 44 BOOT0, 47 VSS (power), 48 VDD (power)
part B pins: 10 PA0-WKUP, 11 PA1, 12 PA2, 13 PA3, 14 PA4, 15 PA5, 16 PA6, 17 PA7, 29 PA8, 30 PA9, 31 PA10, 32 PA11, 33 PA12, 34 PA13/SWDIO, 37 PA14/SWCLK, 38 PA15
part C pins: 2 PC13, 3 PC14, 4 PC15, 18 PB0, 19 PB1, 20 PB2, 21 PB10, 22 PB11, 25 PB12, 26 PB13, 27 PB14, 28 PB15, 39 PB3, 40 PB4, 41 PB5, 42 PB6, 43 PB7, 45 PB8, 46 PB9

## STM32F405VGT6
designator *

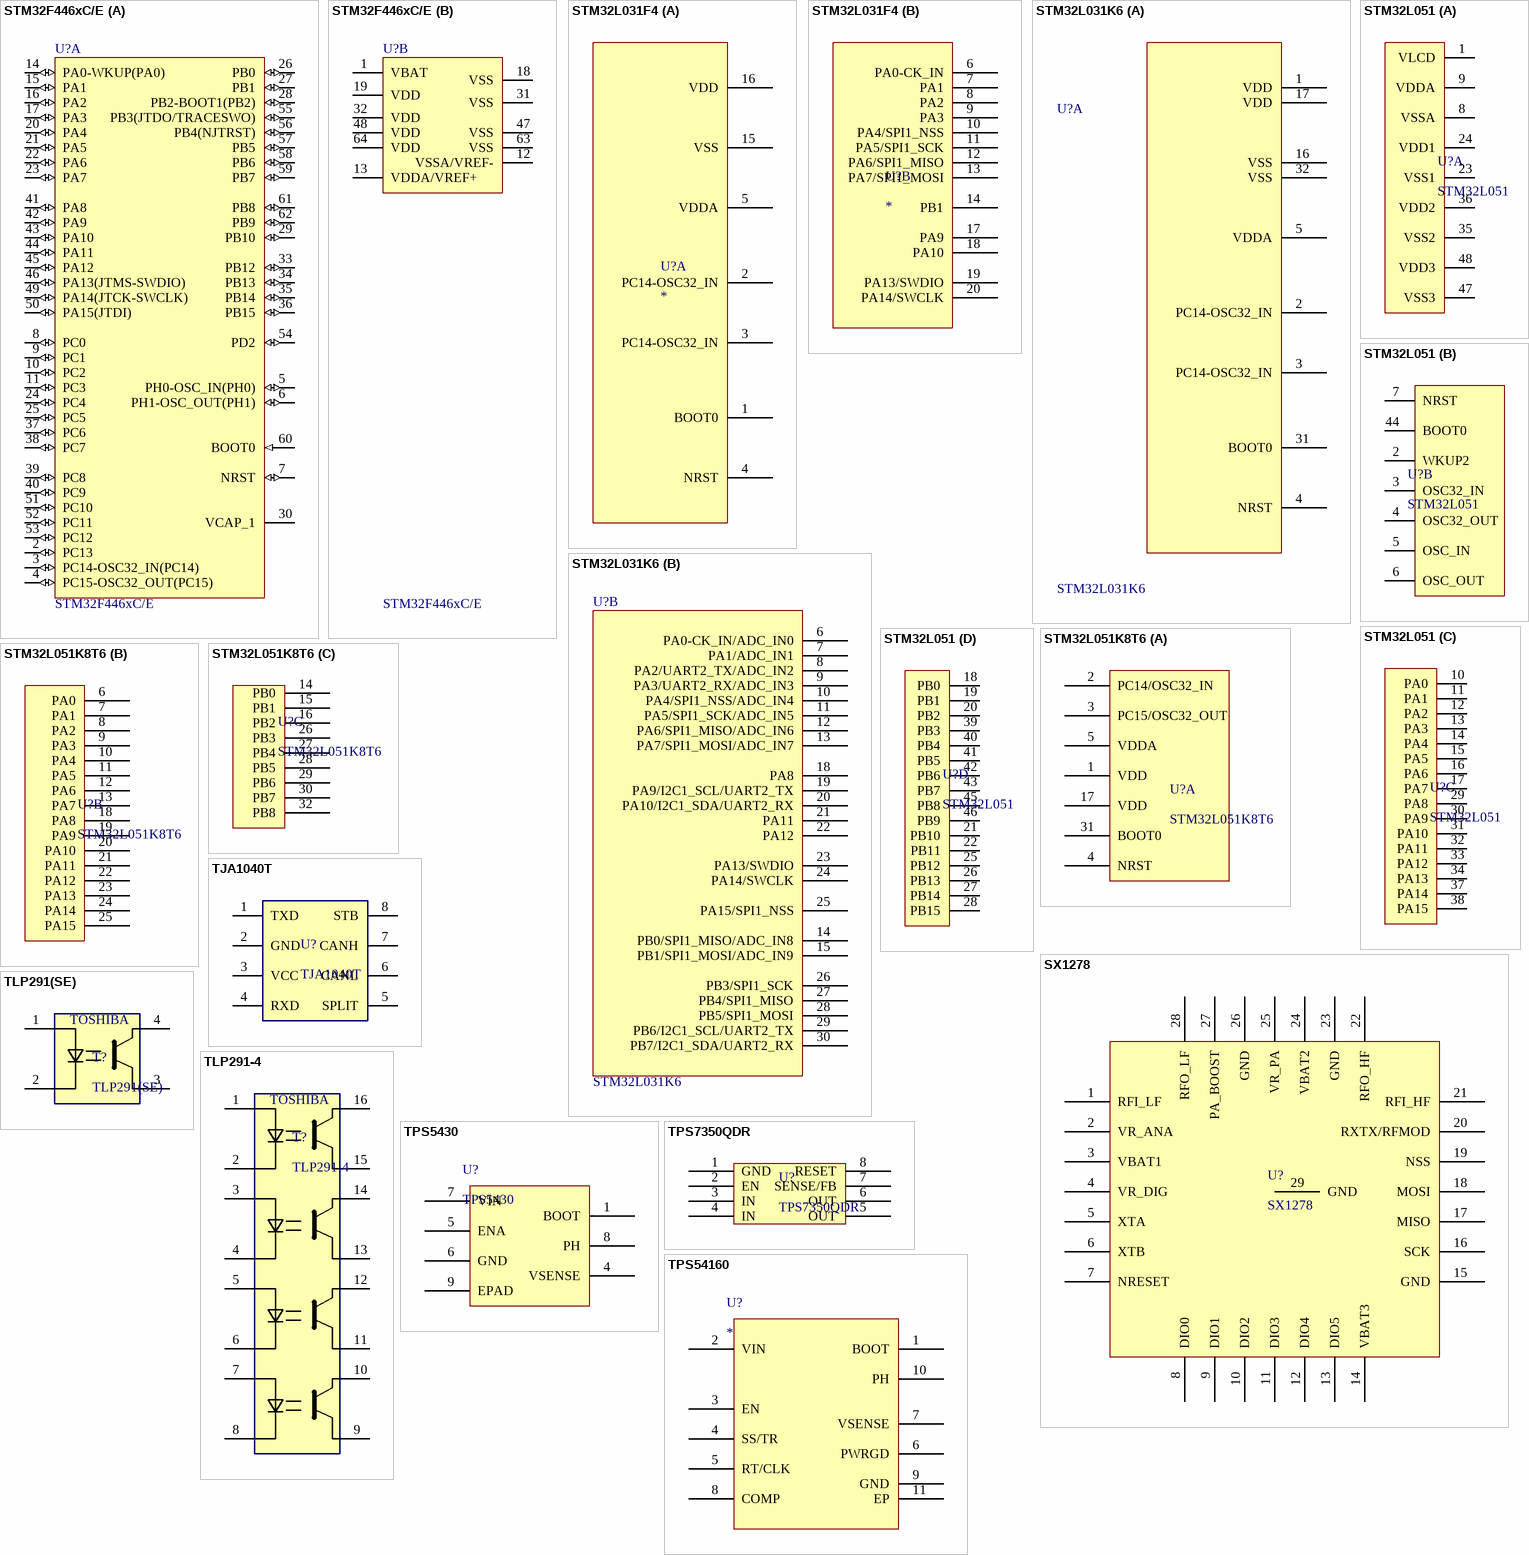
[diagram p4: symbols STM32F446xC/E to TPS54160]

## STM32F446xC/E
designator U?
ARM Cortex-M4 32-bit MCU+FPU, 210 DMIPS, 1024 kB Flash, 192 kB Internal RAM, 51 I/Os, 64-pin LQFP, -40 to 85 degC, Tray; Manufacturer: STMicroelectronics; PartNumber: STM32F405RGT6; D/A Converter: 2x12-bit; FLASH Size (Prog) (kB): 1024; I/Os (High Current): 51; Internal RAM Size (kB): 192; Operating Frequency(F) (Processor speed) (MHz): 168; Supply Voltage(Vcc) max (V): 3.6; Supply Voltage(Vcc) min (V): 1.8; DatasheetVersion: Rev. 4; PackageVersion: Rev. 4, 06/2013; PackageReference: LQFP64; PackageDescription: 64-Pin Low Profile Quad Flat Package, 10 x 10 mm Body, 0.5 mm Pitch; Supplier 1: Digi-Key; Supplier Part Number 1: 497-11767-ND; Supplier 2: Farnell; Supplier Part Number 2: 2064363; Supplier 3: Newark; Supplier Part Number 3: 73T2329; Supplier 4: Mouser; Supplier Part Number 4: 511-STM32F405RGT6; Core: ARM Cortex-M4; Packing: Tray; Mounting Technology: Surface Mount; ComponentLink1Description: Manufacturer URL; ComponentLink1URL: http://www.st.com/web/en/home.html; ComponentLink2Description: Datasheet; ComponentLink2URL: http://www.st.com/st-web-ui/static/active/en/resource/technical/document/datasheet/DM00037051.pdf; ComponentLink3Description: Package Specification; ComponentLink3URL: http://www.st.com/st-web-ui/static/active/en/resource/technical/document/datasheet/DM00037051.pdf
footprint LQFP64_50P (TSQFP, 64-Leads, Body 10.00x10.00mm, Pitch 0.50mm, IPC Medium Density)
part A pins: 2 PC13 (io) "PC13/EVENTOUT/RTC_OUT,RTC_TAMP1,RTC_TS", 3 PC14-OSC32_IN(PC14) (io) "PC14-OSC32_IN(PC14)/EVENTOUT/OSC32_IN", 4 PC15-OSC32_OUT(PC15) (io) "PC15-OSC32_OUT(PC15)/EVENTOUT/OSC32_OUT", 5 PH0-OSC_IN(PH0) (io) "PH0-OSC_IN(PH0)/EVENTOUT/OSC_IN", 6 PH1-OSC_OUT(PH1) (io) "PH1-OSC_OUT(PH1)/EVENTOUT/OSC_OUT", 7 NRST (io), 8 PC0 (io) "PC0/OTG_HS_ULPI_STP/EVENTOUT/ADC123_IN10", 9 PC1 (io) "PC1/ETH_MDC/EVENTOUT/ADC123_IN11", 10 PC2 (io) "PC2/SPI2_MISO/OTG_HS_ULPI_DIR/ETH_MII_TXD2/I2S2ext_SD/EVENTOUT/ADC123_IN12", 11 PC3 (io) "PC3/SPI2_MOSI/I2S2_SD/OTG_HS_ULPI_NXT/ETH_MII_TX_CLK/EVENTOUT/ADC123_IN13", 14 PA0-WKUP(PA0) (io) "PA0-WKUP(PA0)/USART2_CTS/UART4_TX/ETH_MII_CRS/TIM2_CH1_ETR/TIM5_CH1/TIM8_ETR/EVENTOUT/ADC123_IN0/WKUP", 15 PA1 (io) "PA1/USART2_RTS/UART4_RX/ETH_RMII_REF_CLK/ETH_MII_RX_CLK/TIM5_CH2/TIM2_CH2/EVENTOUT/ADC123_IN1", 16 PA2 (io) "PA2/USART2_TX/TIM5_CH3/TIM9_CH1/TIM2_CH3/ETH_MDIO/EVENTOUT/ADC123_IN2", 17 PA3 (io) "PA3/USART2_RX/TIM5_CH4/TIM9_CH2/TIM2_CH4/OTG_HS_ULPI_D0/ETH_MII_COL/EVENTOUT/ADC123_IN3", 20 PA4 (io) "PA4/SPI1_NSS/SPI3_NSS/USART2_CK/DCMI_HSYNC/OTG_HS_SOF/I2S3_WS/EVENTOUT/ADC12_IN4/DAC_OUT1", 21 PA5 (io) "PA5/SPI1_SCK/OTG_HS_ULPI_CK/TIM2_CH1_ETR/TIM8_CH1N/EVENTOUT/ADC12_IN5/DAC_OUT2", 22 PA6 (io) "PA6/SPI1_MISO/TIM8_BKIN/TIM13_CH1/DCMI_PIXCLK/TIM3_CH1/TIM1_BKIN/EVENTOUT/ADC12_IN6", 23 PA7 (io) "PA7/SPI1_MOSI/TIM8_CH1N/TIM14_CH1/TIM3_CH2/ETH_MII_RX_DV/TIM1_CH1N/ETH_RMII_CRS_DV/EVENTOUT/ADC12_IN7", 24 PC4 (io) "PC4/ETH_RMII_RX_D0/ETH_MII_RX_D0/EVENTOUT/ADC12_IN14", 25 PC5 (io) "PC5/ETH_RMII_RX_D1/ETH_MII_RX_D1/EVENTOUT/ADC12_IN15", 26 PB0 (io) "PB0/TIM3_CH3/TIM8_CH2N/OTG_HS_ULPI_D1/ETH_MII_RXD2/TIM1_CH2N/EVENTOUT/ADC12_IN8", 27 PB1 (io) "PB1/TIM3_CH4/TIM8_CH3N/OTG_HS_ULPI_D2/ETH_MII_RXD3/TIM1_CH3N/EVENTOUT/ADC12_IN9", 28 PB2-BOOT1(PB2) (io) "PB2-BOOT1(PB2)/EVENTOUT", 29 PB10 (io) "PB10/SPI2_SCK/I2S2_CK/I2C2_SCL/USART3_TX/OTG_HS_ULPI_D3/ETH_MII_RX_ER/TIM2_CH3/EVENTOUT", 30 VCAP_1 (power), 33 PB12 (io) "PB12/SPI2_NSS/I2S2_WS/I2C2_SMBA/USART3_CK/TIM1_BKIN/CAN2_RX/OTG_HS_ULPI_D5/ETH_RMII_TXD0/ETH_MII_TXD0/OTG_HS_ID/EVENTOUT", 34 PB13 (io) "PB13/SPI2_SCK/I2S2_CK/USART3_CTS/TIM1_CH1N/CAN2_TX/OTG_HS_ULPI_D6/ETH_RMII_TXD1/ETH_MII_TXD1/EVENTOUT/OTG_HS_VBUS", 35 PB14 (io) "PB14/SPI2_MISO/TIM1_CH2N/TIM12_CH1/OTG_HS_DM/USART3_RTS/TIM8_CH2N/I2S2ext_SD/EVENTOUT", 36 PB15 (io) "PB15/SPI2_MOSI/I2S2_SD/TIM1_CH3N/TIM8_CH3N/TIM12_CH2/OTG_HS_DP/EVENTOUT/RTC_REFIN", 37 PC6 (io) "PC6/I2S2_MCK/TIM8_CH1/SDIO_D6/USART6_TX/DCMI_D0/TIM3_CH1/EVENTOUT", 38 PC7 (io) "PC7/I2S3_MCK/TIM8_CH2/SDIO_D7/USART6_RX/DCMI_D1/TIM3_CH2/EVENTOUT", 39 PC8 (io) "PC8/TIM8_CH3/SDIO_D0/TIM3_CH3/USART6_CK/DCMI_D2/EVENTOUT", 40 PC9 (io) "PC9/I2S_CKIN/MCO2/TIM8_CH4/SDIO_D1/I2C3_SDA/DCMI_D3/TIM3_CH4/EVENTOUT", 41 PA8 (io) "PA8/MCO1/USART1_CK/TIM1_CH1/I2C3_SCL/OTG_FS_SOF/EVENTOUT", 42 PA9 (io) "PA9/USART1_TX/TIM1_CH2/I2C3_SMBA/DCMI_D0/EVENTOUT/OTG_FS_VBUS", 43 PA10 (io) "PA10/USART1_RX/TIM1_CH3/OTG_FS_ID/DCMI_D1/EVENTOUT", 44 PA11 (io) "PA11/USART1_CTS/CAN1_RX/TIM1_CH4/OTG_FS_DM/EVENTOUT", 45 PA12 (io) "PA12/USART1_RTS/CAN1_TX/TIM1_ETR/OTG_FS_DP/EVENTOUT", 46 PA13(JTMS-SWDIO) (io) "PA13(JTMS-SWDIO)/JTMS-SWDIO/EVENTOUT", 49 PA14(JTCK-SWCLK) (io) "PA14(JTCK-SWCLK)/JTCK-SWCLK/EVENTOUT", 50 PA15(JTDI) (io) "PA15(JTDI)/JTDI/SPI3_NSS/I2S3_WS/TIM2_CH1_ETR/SPI1_NSS/EVENTOUT", 51 PC10 (io) "PC10/SPI3_SCK/I2S3_CK/UART4_TX/SDIO_D2/DCMI_D8/USART3_TX/EVENTOUT", 52 PC11 (io) "PC11/UART4_RX/SPI3_MISO/SDIO_D3/DCMI_D4/USART3_RX/I2S3ext_SD/EVENTOUT", 53 PC12 (io) "PC12/UART5_TX/SDIO_CK/DCMI_D9/SPI3_MOSI/I2S3_SD/USART3_CK/EVENTOUT", 54 PD2 (io) "PD2/TIM3_ETR/UART5_RX/SDIO_CMD/DCMI_D11/EVENTOUT", 55 PB3(JTDO/TRACESWO) (io) "PB3(JTDO/TRACESWO)/JTDO/TRACESWO/SPI3_SCK/I2S3_CK/TIM2_CH2/SPI1_SCK/EVENTOUT", 56 PB4(NJTRST) (io) "PB4(NJTRST)/NJTRST/SPI3_MISO/TIM3_CH1/SPI1_MISO/I2S3ext_SD/EVENTOUT", 57 PB5 (io) "PB5/I2C1_SMBA/CAN2_RX/OTG_HS_ULPI_D7/ETH_PPS_OUT/TIM3_CH2/SPI1_MOSI/SPI3_MOSI/DCMI_D10/I2S3_SD/EVENTOUT", 58 PB6 (io) "PB6/I2C1_SCL/TIM4_CH1/CAN2_TX/DCMI_D5/USART1_TX/EVENTOUT", 59 PB7 (io) "PB7/I2C1_SDA/FSMC_NL/DCMI_VSYNC/USART1_RX/TIM4_CH2/EVENTOUT", 60 BOOT0 (in) "BOOT0/VPP", 61 PB8 (io) "PB8/TIM4_CH3/SDIO_D4/TIM10_CH1/DCMI_D6/ETH_MII_TXD3/I2C1_SCL/CAN1_RX/EVENTOUT", 62 PB9 (io) "PB9/SPI2_NSS/I2S2_WS/TIM4_CH4/TIM11_CH1/SDIO_D5/DCMI_D7/I2C1_SDA/CAN1_TX/EVENTOUT"
part B pins: 1 VBAT (power), 12 VSSA/VREF- (power) "VSSA", 13 VDDA/VREF+ (power) "VDDA", 18 VSS (power), 19 VDD (power), 31 VSS, 32 VDD (power), 47 VSS (power) "VCAP_2", 48 VDD (power), 63 VSS (power), 64 VDD (power)

## STM32L031F4
designator U?
footprint TSSOP20 (TSOP, 20-Leads, Body 6.50x4.40mm, Pitch 0.65mm, IPC Medium Density)
part A pins: 1 BOOT0, 2 PC14-OSC32_IN, 3 PC14-OSC32_IN, 4 NRST, 5 VDDA (power), 15 VSS (power), 16 VDD (power)
part B pins: 6 PA0-CK_IN, 7 PA1, 8 PA2, 9 PA3, 10 PA4/SPI1_NSS, 11 PA5/SPI1_SCK, 12 PA6/SPI1_MISO, 13 PA7/SPI1_MOSI, 14 PB1, 17 PA9, 18 PA10, 19 PA13/SWDIO, 20 PA14/SWCLK

## STM32L031K6
designator U?
footprint LQFP32_80P (TQFP, 32-Leads, Body 7.00x7.00mm, Pitch 0.80mm, IPC Medium Density)
part A pins: 1 VDD (power), 2 PC14-OSC32_IN, 3 PC14-OSC32_IN, 4 NRST, 5 VDDA (power), 16 VSS (power), 17 VDD (power), 31 BOOT0, 32 VSS (power)
part B pins: 6 PA0-CK_IN/ADC_IN0, 7 PA1/ADC_IN1, 8 PA2/UART2_TX/ADC_IN2, 9 PA3/UART2_RX/ADC_IN3, 10 PA4/SPI1_NSS/ADC_IN4, 11 PA5/SPI1_SCK/ADC_IN5, 12 PA6/SPI1_MISO/ADC_IN6, 13 PA7/SPI1_MOSI/ADC_IN7, 14 PB0/SPI1_MISO/ADC_IN8, 15 PB1/SPI1_MOSI/ADC_IN9, 18 PA8, 19 PA9/I2C1_SCL/UART2_TX, 20 PA10/I2C1_SDA/UART2_RX, 21 PA11, 22 PA12, 23 PA13/SWDIO, 24 PA14/SWCLK, 25 PA15/SPI1_NSS, 26 PB3/SPI1_SCK, 27 PB4/SPI1_MISO, 28 PB5/SPI1_MOSI, 29 PB6/I2C1_SCL/UART2_TX, 30 PB7/I2C1_SDA/UART2_RX

## STM32L051
designator U?
footprint LQFP48_50P (TSQFP, 48-Leads, Body 7.00x7.00mm, Pitch 0.50mm, IPC Medium Density)
part A pins: 1 VLCD, 8 VSSA, 9 VDDA, 23 VSS1, 24 VDD1, 35 VSS2, 36 VDD2, 47 VSS3, 48 VDD3
part B pins: 2 WKUP2, 3 OSC32_IN, 4 OSC32_OUT, 5 OSC_IN, 6 OSC_OUT, 7 NRST, 44 BOOT0
part C pins: 10 PA0, 11 PA1, 12 PA2, 13 PA3, 14 PA4, 15 PA5, 16 PA6, 17 PA7, 29 PA8, 30 PA9, 31 PA10, 32 PA11, 33 PA12, 34 PA13, 37 PA14, 38 PA15
part D pins: 18 PB0, 19 PB1, 20 PB2, 21 PB10, 22 PB11, 25 PB12, 26 PB13, 27 PB14, 28 PB15, 39 PB3, 40 PB4, 41 PB5, 42 PB6, 43 PB7, 45 PB8, 46 PB9

## STM32L051K8T6
designator U?
footprint QFN32_50_EP_N (QFN, 32-Leads, Body 5x5mm, Pitch 0.5mm, IPC Medium Density)
part A pins: 1 VDD, 2 PC14/OSC32_IN, 3 PC15/OSC32_OUT, 4 NRST, 5 VDDA, 17 VDD, 31 BOOT0
part B pins: 6 PA0, 7 PA1, 8 PA2, 9 PA3, 10 PA4, 11 PA5, 12 PA6, 13 PA7, 18 PA8, 19 PA9, 20 PA10, 21 PA11, 22 PA12, 23 PA13, 24 PA14, 25 PA15
part C pins: 14 PB0, 15 PB1, 16 PB2, 26 PB3, 27 PB4, 28 PB5, 29 PB6, 30 PB7, 32 PB8

## SX1278
designator U?
137MHz to 525MHz Long Range Low Power Transceiver
footprint QFN28_65P_EP
pins: 1 RFI_LF, 2 VR_ANA, 3 VBAT1, 4 VR_DIG, 5 XTA, 6 XTB, 7 NRESET, 8 DIO0, 9 DIO1, 10 DIO2, 11 DIO3, 12 DIO4, 13 DIO5, 14 VBAT3, 15 GND, 16 SCK, 17 MISO, 18 MOSI, 19 NSS, 20 RXTX/RFMOD, 21 RFI_HF, 22 RFO_HF, 23 GND, 24 VBAT2, 25 VR_PA, 26 GND, 27 PA_BOOST, 28 RFO_LF, 29 GND

## TJA1040T
designator U?
High speed CAN transceiver
footprint SOIC8_150
pins: 1 TXD, 2 GND, 3 VCC, 4 RXD, 5 SPLIT, 6 CANL, 7 CANH, 8 STB

## TLP291(SE)
designator T?
Photocouplers GaAs Infrared LED & Photo Transistor
footprint SOP4
pins: 1 A, 2 C, 3 E, 4 C
text: TOSHIBA

## TLP291-4
designator T?
Photocouplers GaAs Infrared LED & Photo Transistor
footprint SOIC16_180
pins: 1 A, 2 C, 3 A, 4 C, 5 A, 6 C, 7 A, 8 C, 9 E, 10 C, 11 E, 12 C, 13 E, 14 C, 15 E, 16 C
text: TOSHIBA

## TPS5430
designator U?
footprint SOIC8_150_EP (SOIC, 8-Leads, Body 4.90x3.90mm, Pitch 1.27mm, Thermal Pad 3.17x2.43mm, IPC Medium Density)
pins: 1 BOOT, 4 VSENSE, 5 ENA, 6 GND, 7 VIN, 8 PH, 9 EPAD

## TPS7350QDR
designator U?
TPS7350Q / LOW-DROPOUT VOLTAGE REGULATORS / WITH INTEGRATED DELAYED RESET FUNCTION
footprint SOIC8_150
pins: 1 GND, 2 EN, 3 IN, 4 IN, 5 OUT, 6 OUT, 7 SENSE/FB, 8 RESET

## TPS54160
designator U?
footprint MSOP10_EP
pins: 1 BOOT, 2 VIN (power), 3 EN, 4 SS/TR, 5 RT/CLK, 6 PWRGD, 7 VSENSE, 8 COMP, 9 GND (power), 10 PH, 11 EP

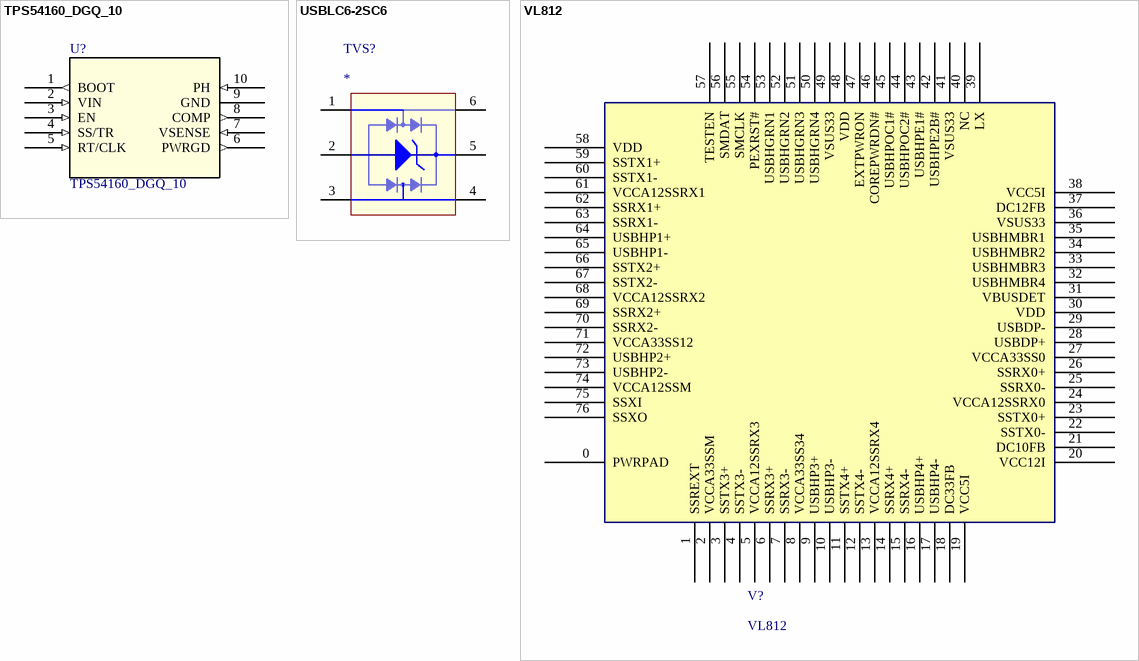
[diagram p5: symbols TPS54160_DGQ_10 to VL812]

## TPS54160_DGQ_10
designator U?
Imported; Vendor: Texas Instruments; PACKAGE_DESIGNATOR: DGQ; PIN_COUNT: 10; FAMILY_NAME: STEP-DOWN REGULATOR; INDUSTRY_STD_PKG_TYPE: MSOP-PowerPAD; Manufacturer_Part_Number: tps54160_dgq_10; GENERIC_PART_NUMBER: TPS54160; Manufacturer: Texas Instruments; Datasheet_URL: http://www.ti.com/lit/gpn/TPS54160; Value: Value; Type: Type; RefDes: RefDes
footprint MSOP10_EP
pins: 1 BOOT (out), 2 VIN (in), 3 EN (in), 4 SS/TR (in), 5 RT/CLK (in), 6 PWRGD (out), 7 VSENSE (in), 8 COMP (out), 9 GND (power), 10 PH (in)

## USBLC6-2SC6
designator TVS?
footprint SOT23_6 (SOT23, 6-Leads, Body 2.90x2.80mm, Pitch 0.95mm, IPC Medium Density)
pins: 1 I/O1, 2, 3, 4, 5 Vbus, 6

## VL812
designator V?
VIA_Lab_USB 3.0 Hub Controller
footprint QFN76_40P_EP
pins: 0 PWRPAD, 1 SSREXT, 2 VCCA33SSM, 3 SSTX3+, 4 SSTX3-, 5 VCCA12SSRX3, 6 SSRX3+, 7 SSRX3-, 8 VCCA33SS34, 9 USBHP3+, 10 USBHP3-, 11 SSTX4+, 12 SSTX4-, 13 VCCA12SSRX4, 14 SSRX4+, 15 SSRX4-, 16 USBHP4+, 17 USBHP4-, 18 DC33FB, 19 VCC5I, 20 VCC12I, 21 DC10FB, 22 SSTX0-, 23 SSTX0+, 24 VCCA12SSRX0, 25 SSRX0-, 26 SSRX0+, 27 VCCA33SS0, 28 USBDP+, 29 USBDP-, 30 VDD, 31 VBUSDET, 32 USBHMBR4, 33 USBHMBR3, 34 USBHMBR2, 35 USBHMBR1, 36 VSUS33, 37 DC12FB, 38 VCC5I, 39 LX, 40 NC, 41 VSUS33, 42 USBHPE2B#, 43 USBHPE1#, 44 USBHPOC2#, 45 USBHPOC1#, 46 COREPWRDN#, 47 EXTPWRON, 48 VDD, 49 VSUS33, 50 USBHGRN4, 51 USBHGRN3, 52 USBHGRN2, 53 USBHGRN1, 54 PEXRST#, 55 SMCLK, 56 SMDAT, 57 TESTEN, 58 VDD, 59 SSTX1+, 60 SSTX1-, 61 VCCA12SSRX1, 62 SSRX1+, 63 SSRX1-, 64 USBHP1+, 65 USBHP1-, 66 SSTX2+, 67 SSTX2-, 68 VCCA12SSRX2, 69 SSRX2+, 70 SSRX2-, 71 VCCA33SS12, 72 USBHP2+, 73 USBHP2-, 74 VCCA12SSM, 75 SSXI, 76 SSXO